# Altium footprint library Special.PcbLib: 67 footprints (part 5 of 5)
Each footprint in its own frame and in the unit in brackets; x right, y up, seen from the top. Pads: shape width x height; smd on the part's side, far side on the other; paste and mask are expansions set on the pad; w line width, h text height; cw(c..) or ccw(c..) is an arc to the next point about the centre after c.
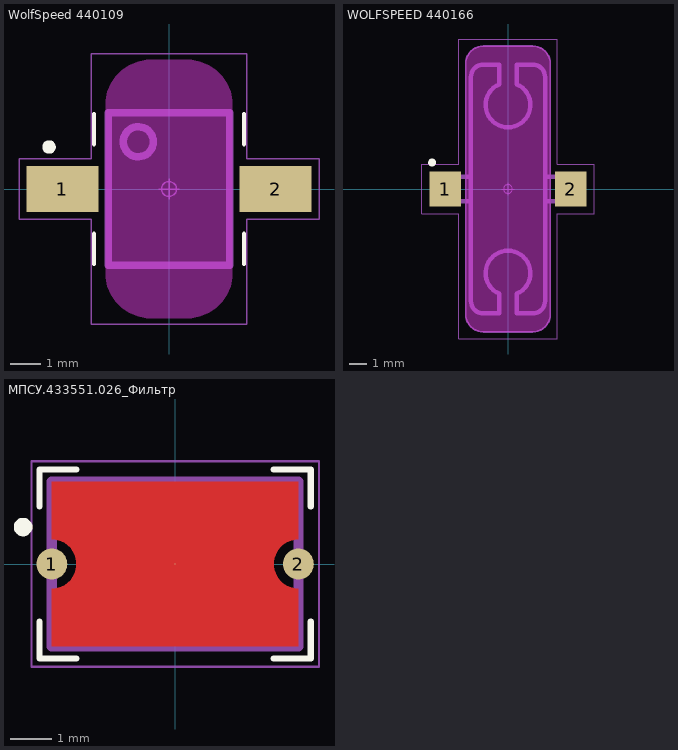
[diagram p4: the footprints below, top view; thin cyan lines are the x and y axes]

## WolfSpeed 440109 [mm] "Package Type 440109 Pill Transistor"
height 2
pads (2):
  rect 2.4x1.55 smd: 1(-3.555,0) 2(3.555,0)
Top Overlay:
  circle w0.25: c-4,1.4 r0.1
  lines w0.15: -2.5,-2.5 -2.5,-1.5 ; -2.5,1.5 -2.5,2.5 ; 2.5,-2.5 2.5,-1.5 ; 2.5,1.5 2.5,2.5
Keep-Out Layer:
  board cut-out: -0.608,4.303 0.608,4.303 0.756,4.303 1.046,4.246 1.319,4.133 1.564,3.969 1.773,3.76 1.937,3.514 2.051,3.241 2.108,2.951 2.108,2.803 2.108,-2.803 2.108,-2.951 2.051,-3.241 1.937,-3.514 1.773,-3.76 1.564,-3.969 1.319,-4.133 1.046,-4.246 0.756,-4.303 0.608,-4.303 -0.608,-4.303 -0.756,-4.303 -1.046,-4.246 -1.319,-4.133 -1.564,-3.969 -1.773,-3.76 -1.937,-3.514 -2.051,-3.241 -2.108,-2.951 -2.108,-2.803 -2.108,2.803 -2.108,2.951 -2.051,3.241 -1.937,3.514 -1.773,3.76 -1.564,3.969 -1.319,4.133 -1.046,4.246 -0.756,4.303
Top Assembly:
  circle w0.25: c-1.025,1.575 r0.5
  lines w0.25: -2.033,-2.54 2.033,-2.54 2.033,2.54 -2.033,2.54 -2.033,-2.54
  text ".Designator" at -3.378,-0.339 h1.5
Top Courtyard:
  circle w0.05: c0,0 r0.25
  lines w0.05: -0.35,0 0.35,0 ; 0,-0.35 0,0.35 ; -5,-1 -5,1 -2.6,1 -2.6,4.5 2.6,4.5 2.6,1 5,1 5,-1 2.6,-1 2.6,-4.5 -2.6,-4.5 -2.6,-1 -5,-1
3D body "Trans_Wolfspeed_CGH40006P_eec.STEP": height 1.9, standoff -0.75, extent -4.064,-2.54 4.064,2.54

## WOLFSPEED 440166 [mm] "Package Type 440166 Flange Transistor"
height 1.7
pads (2):
  rect 1.8x2 smd: 1(-3.55,0) 2(3.55,0)
Top Overlay:
  circle w0.25: c-4.3,1.5 r0.1
Keep-Out Layer:
  board cut-out: -2.4,-7.1 -2.4,7.1 -2.4,7.199 -2.362,7.392 -2.286,7.574 -2.177,7.737 -2.037,7.877 -1.874,7.986 -1.692,8.062 -1.498,8.1 -1.4,8.1 1.4,8.1 1.499,8.1 1.692,8.062 1.874,7.986 2.038,7.877 2.177,7.737 2.286,7.574 2.362,7.392 2.4,7.199 2.4,7.1 2.4,-7.1 2.4,-7.198 2.362,-7.392 2.286,-7.574 2.177,-7.737 2.038,-7.877 1.874,-7.986 1.692,-8.062 1.499,-8.1 1.4,-8.1 -1.4,-8.1 -1.498,-8.1 -1.692,-8.062 -1.874,-7.986 -2.037,-7.877 -2.177,-7.737 -2.286,-7.574 -2.362,-7.392 -2.4,-7.198
Top Assembly:
  lines w0.25: -2.1,-0.7 -3.5,-0.7 -4.1,-0.1 -4.1,0.7 -2.1,0.7 ; 2.1,-0.7 4.1,-0.7 4.1,0.7 2.1,0.7 ; -2.1,-6.35 ccw(c-1.4,-6.35) -1.4,-7.05 -0.5,-7.05 -0.5,-5.932 cw(c0,-4.765) 0.5,-5.932 0.5,-7.05 1.4,-7.05 ccw(c1.4,-6.35) 2.1,-6.35 2.1,6.35 ccw(c1.4,6.35) 1.4,7.05 0.5,7.05 0.5,5.932 cw(c0,4.765) -0.5,5.932 -0.5,7.05 -1.4,7.05 ccw(c-1.4,6.35) -2.1,6.35 -2.1,-6.35
  text ".Designator" at -3.378,-0.339 h1.5
Board:
  lines w0.1: -2.4,-7.1 ccw(c-1.4,-7.1) -1.4,-8.1 1.4,-8.1 ccw(c1.4,-7.1) 2.4,-7.1 2.4,7.1 ccw(c1.4,7.1) 1.4,8.1 -1.4,8.1 ccw(c-1.4,7.1) -2.4,7.1 -2.4,-7.1
Top Courtyard:
  circle w0.05: c0,0 r0.25
  lines w0.05: -0.35,0 0.35,0 ; 0,-0.35 0,0.35 ; -4.9,-1.4 -2.8,-1.4 -2.8,-8.5 2.8,-8.5 2.8,-1.4 4.9,-1.4 4.9,1.4 2.8,1.4 2.8,8.5 -2.8,8.5 -2.8,1.4 -4.9,1.4 -4.9,-1.4
3D body "Package 440166.STEP": height 1.6, standoff -1.58, extent -4.062,-6.983 4.062,6.983

## МПСУ.433551.026_Фильтр [mm] "Фильтр пъезокерамичсекий, полоснопропускающий, 5,2..5,7 ГГц"
height 2.5
pads (3):
  round 0.75 smd: 1(-3,0) 2(3,0)
  round 0.025 smd mask+0.102: 3(0,0)
Top Layer:
  region: -3,-2 -3,-0.6 -2.953,-0.598 -2.86,-0.583 -2.77,-0.554 -2.686,-0.512 -2.61,-0.456 -2.544,-0.39 -2.488,-0.313 -2.446,-0.23 -2.417,-0.14 -2.402,-0.047 -2.402,0.047 -2.417,0.14 -2.446,0.23 -2.488,0.313 -2.544,0.39 -2.61,0.456 -2.686,0.512 -2.77,0.554 -2.86,0.583 -2.953,0.598 -3,0.6 -3,2 3,2 3,0.6 2.953,0.598 2.86,0.583 2.77,0.554 2.686,0.512 2.61,0.456 2.544,0.39 2.488,0.313 2.446,0.23 2.417,0.14 2.402,0.047 2.402,-0.047 2.417,-0.14 2.446,-0.23 2.488,-0.313 2.544,-0.39 2.61,-0.456 2.686,-0.512 2.77,-0.554 2.86,-0.583 2.953,-0.598 3,-0.6 3,-2
Top Overlay:
  circle w0.25: c-3.7,0.9 r0.1
  lines w0.15: -3.3,-1.4 -3.3,-2.3 -2.4,-2.3 ; -3.3,1.4 -3.3,2.3 -2.4,2.3 ; 2.4,-2.3 3.3,-2.3 3.3,-1.4 ; 2.4,2.3 3.3,2.3 3.3,1.4
Top Assembly:
  circle w0.25: c-2.3,1.3 r0.316
  lines w0.25: -3,-2 3,-2 3,2 -3,2 -3,-2
  text ".Designator" at -3.378,-0.339 h1.5
Top Courtyard:
  circle w0.05: c0,0 r0.25
  lines w0.05: -0.35,0 0.35,0 ; 0,-0.35 0,0.35 ; -3.5,-2.5 3.5,-2.5 3.5,2.5 -3.5,2.5 -3.5,-2.5
3D body "МПСУ.433551.026.STEP": height 2.5, standoff 0, extent -3,-2 3,2